# Altium footprint library jumper.PCBLIB: 40 footprints (part 1 of 3)
Each footprint in its own frame and in the unit in brackets; x right, y up, seen from the top. Pads: shape width x height; smd on the part's side, far side on the other; paste and mask are expansions set on the pad; w line width, h text height; cw(c..) or ccw(c..) is an arc to the next point about the centre after c.
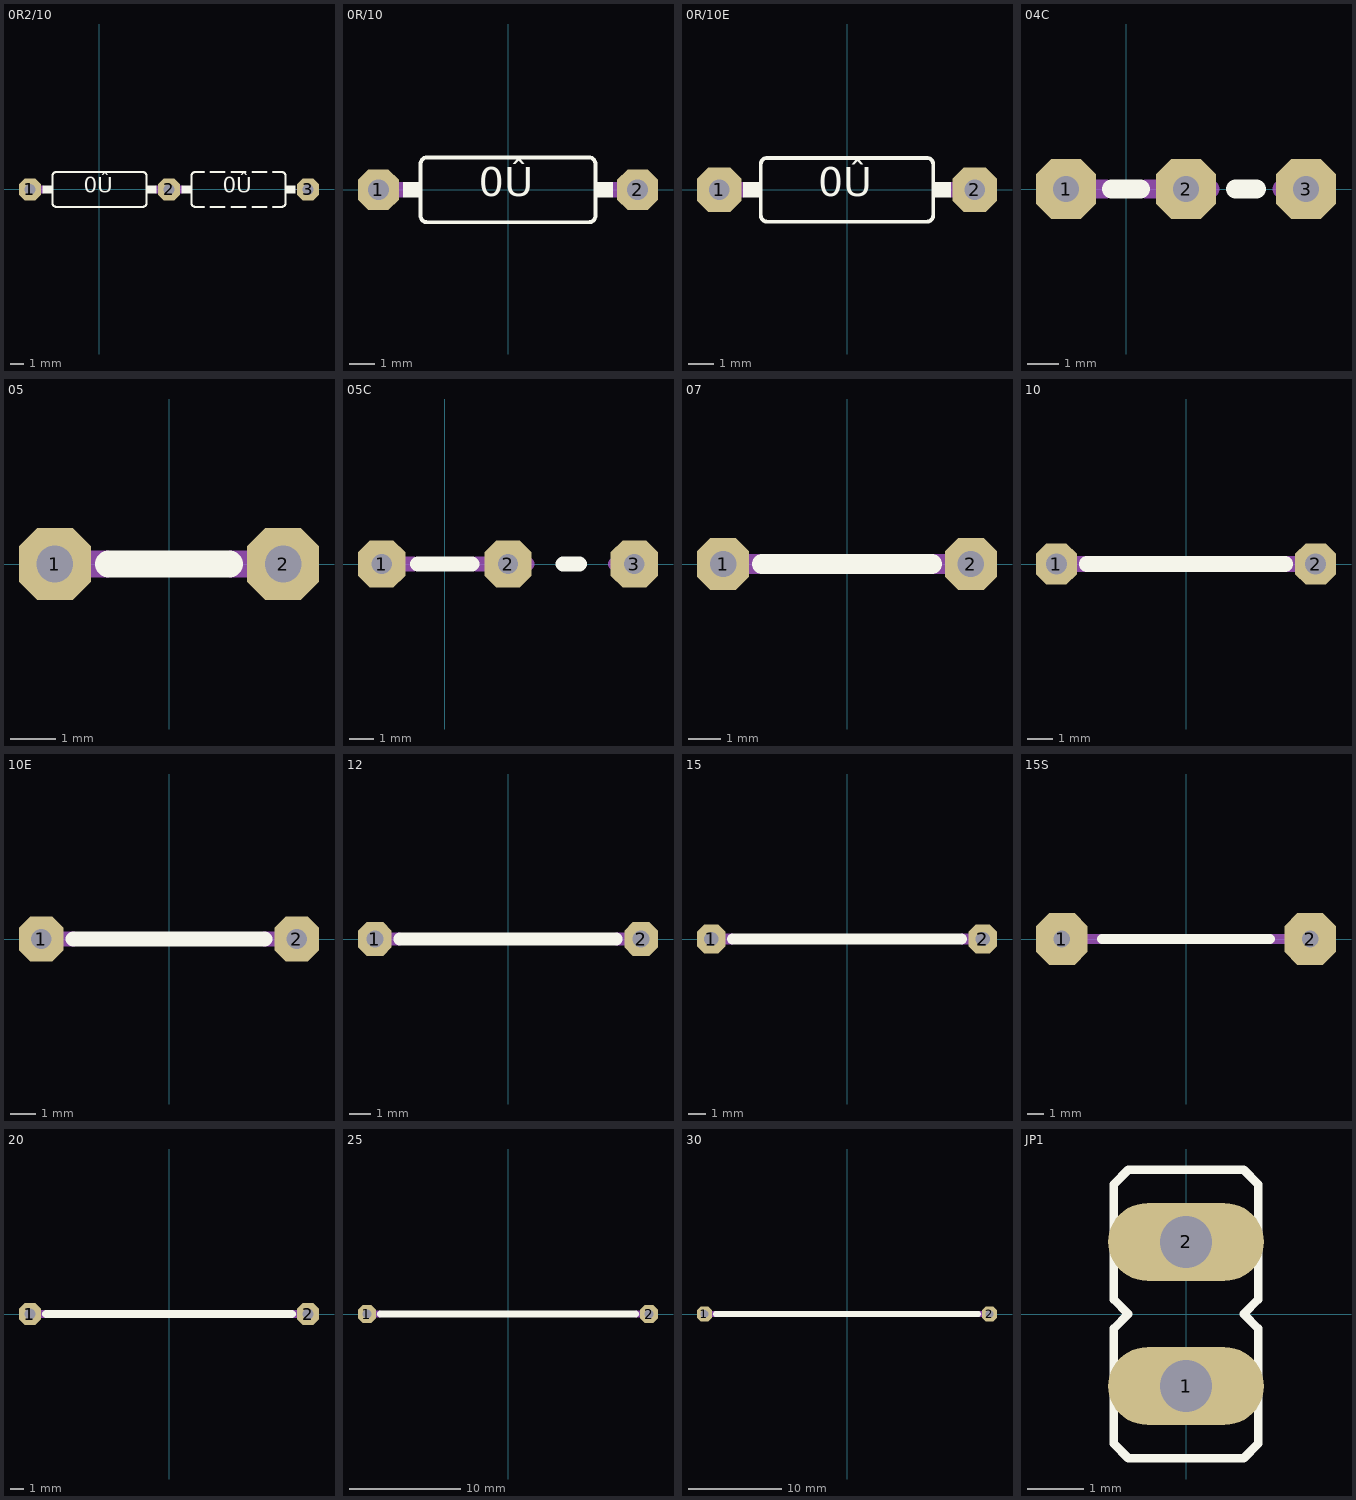
[diagram p0: the footprints below, top view; thin cyan lines are the x and y axes]

## 0R2/10 [mil]
pads (3):
  oct 63x63 hole 32: 1(-200,0) 2(200,0) 3(600,0)
Top Overlay:
  rectangle: 535,-12 564,12
  rectangle: 236,-12 265,12
  rectangle: 135,-12 164,12
  rectangle: -164,-12 -135,12
  lines w6: 300,-50 275,-50 cw(c275,-40) 265,-40 265,40 cw(c275,40) 275,50 300,50 ; 320,-50 360,-50 ; 320,50 360,50 ; 380,-50 420,-50 ; 380,50 420,50 ; 440,-50 480,-50 ; 440,50 480,50 ; 500,-50 525,-50 ccw(c525,-40) 535,-40 535,40 ccw(c525,40) 525,50 500,50 ; -135,-40 ccw(c-125,-40) -125,-50 125,-50 ccw(c125,-40) 135,-40 135,40 ccw(c125,40) 125,50 -125,50 ccw(c-125,40) -135,40 -135,-40
  text "0Û" at 355,-25 h77.5
  text "0Û" at -45,-25 h77.5
Mechanical 16:
  lines w6: 570,0 600,0
  lines w24: -200,0 -165,0 ; 165,0 235,0

## 0R/10 [mil]
pads (2):
  oct 63x63 hole 32: 1(-200,0) 2(200,0)
Top Overlay:
  rectangle: 135,-12 162,12
  rectangle: -162,-12 -135,12
  lines w6: -135,-40 ccw(c-125,-40) -125,-50 125,-50 ccw(c125,-40) 135,-40 135,40 ccw(c125,40) 125,50 -125,50 ccw(c-125,40) -135,40 -135,-40
  text "0Û" at -45,-25 h77.5
Mechanical 16:
  lines w24: -200,0 -165,0 ; 165,0 200,0

## 0R/10E [mil]
pads (2):
  oct 70x70 hole 32: 1(-200,0) 2(200,0)
Top Overlay:
  rectangle: 135,-12 163,12
  rectangle: -163,-12 -135,12
  lines w6: -135,-40 ccw(c-125,-40) -125,-50 125,-50 ccw(c125,-40) 135,-40 135,40 ccw(c125,40) 125,50 -125,50 ccw(c-125,40) -135,40 -135,-40
  text "0Û" at -45,-25 h77.5
Mechanical 16:
  lines w24: -200,0 -165,0 ; 165,0 200,0

## 04C [mil]
pads (3):
  oct 75x75 hole 32: 1(-75,0) 2(75,0) 3(225,0)
Top Overlay:
  lines w24: -18,0 18,0 ; 137,0 163,0
Mechanical 16:
  lines w24: -75,0 -25,0 ; 25,0 75,0 ; 80,0 105,0 ; 195,0 225,0

## 05 [mil]
pads (2):
  oct 63x63 hole 32: 1(-100,0) 2(100,0)
Top Overlay:
  lines w24: -53,0 53,0
Mechanical 16:
  lines w24: -100,0 -55,0 ; 55,0 100,0

## 05C [mil]
pads (3):
  oct 75x75 hole 32: 1(-100,0) 2(100,0) 3(300,0)
Top Overlay:
  lines w24: -43,0 43,0 ; 187,0 213,0
Mechanical 16:
  lines w24: -100,0 -50,0 ; 50,0 100,0 ; 105,0 130,0 ; 270,0 300,0

## 07 [mil]
pads (2):
  oct 63x63 hole 32: 1(-150,0) 2(150,0)
Top Overlay:
  lines w24: -103,0 103,0
Mechanical 16:
  lines w24: -150,0 -100,0 ; 100,0 150,0

## 10 [mil]
pads (2):
  oct 63x63 hole 32: 1(-200,0) 2(200,0)
Top Overlay:
  lines w24: -153,0 153,0
Mechanical 16:
  lines w24: -200,0 -155,0 ; 155,0 200,0

## 10E [mil]
pads (2):
  oct 70x70 hole 32: 1(-200,0) 2(200,0)
Top Overlay:
  lines w24: -150,0 150,0
Mechanical 16:
  lines w24: -200,0 -150,0 ; 150,0 200,0

## 12 [mil]
pads (2):
  oct 63x63 hole 32: 1(-250,0) 2(250,0)
Top Overlay:
  lines w24: -203,0 203,0
Mechanical 16:
  lines w24: -250,0 -205,0 ; 205,0 250,0

## 15 [mil]
pads (2):
  oct 63x63 hole 32: 1(-300,0) 2(300,0)
Top Overlay:
  lines w24: -253,0 253,0
Mechanical 16:
  lines w24: -300,0 -255,0 ; 255,0 300,0

## 15S [mil]
pads (2):
  oct 125x125 hole 40: 1(-300,0) 2(300,0)
Top Overlay:
  lines w24: -203,0 203,0
Mechanical 16:
  lines w24: -300,0 -205,0 ; 205,0 300,0

## 20 [mil]
pads (2):
  oct 63x63 hole 32: 1(-400,0) 2(400,0)
Top Overlay:
  lines w24: -353,0 353,0
Mechanical 16:
  lines w24: -400,0 -355,0 ; 355,0 400,0

## 25 [mil]
pads (2):
  oct 63x63 hole 32: 1(-500,0) 2(500,0)
Top Overlay:
  lines w24: -453,0 453,0
Mechanical 16:
  lines w24: -500,0 -455,0 ; 455,0 500,0

## 30 [mil]
pads (2):
  oct 63x63 hole 32: 1(-600,0) 2(600,0)
Top Overlay:
  lines w24: -553,0 553,0
Mechanical 16:
  lines w24: -600,0 -555,0 ; 555,0 600,0

## JP1 [mil]
pads (2):
  oval 108x54 hole 36: 1(0,-50) 2(0,50)
Top Overlay:
  lines w6: -50,-90 -50,-10 -40,0 -50,10 -50,90 -40,100 40,100 50,90 50,10 40,0 50,-10 50,-90 40,-100 -40,-100 -50,-90
Mechanical 16:
  rectangle: -12,38 12,62
  rectangle: -12,-62 12,-38